# Altium footprint library TAS5720M.PcbLib: 1 footprints
Each footprint in its own frame and in the unit in brackets; x right, y up, seen from the top. Pads: shape width x height; smd on the part's side, far side on the other; paste and mask are expansions set on the pad; w line width, h text height; cw(c..) or ccw(c..) is an arc to the next point about the centre after c.
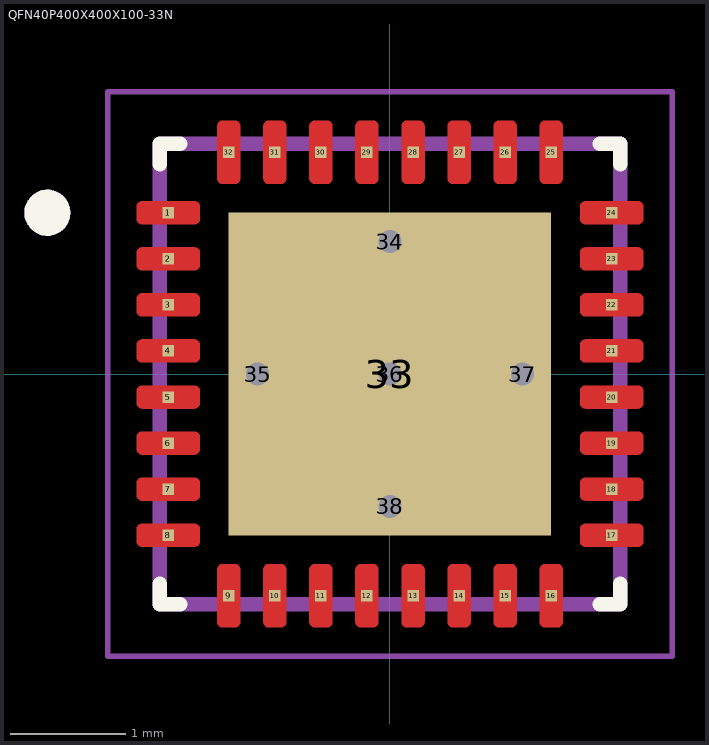
[diagram p0: the footprint, top view; thin cyan lines are the x and y axes]

## QFN40P400X400X100-33N [mm]
pads (38):
  rect 0.1x0.1 smd paste-1 mask+0: 1(-1.925,1.4) 2(-1.925,1) 3(-1.925,0.6) 4(-1.925,0.2) 5(-1.925,-0.2) 6(-1.925,-0.6) 7(-1.925,-1) 8(-1.925,-1.4) 9(-1.4,-1.925) 10(-1,-1.925) 11(-0.6,-1.925) 12(-0.2,-1.925) 13(0.2,-1.925) 14(0.6,-1.925) 15(1,-1.925) 16(1.4,-1.925) 17(1.925,-1.4) 18(1.925,-1) 19(1.925,-0.6) 20(1.925,-0.2) 21(1.925,0.2) 22(1.925,0.6) 23(1.925,1) 24(1.925,1.4) 25(1.4,1.925) 26(1,1.925) 27(0.6,1.925) 28(0.2,1.925) 29(-0.2,1.925) 30(-0.6,1.925) 31(-1,1.925) 32(-1.4,1.925)
  rect 2.8x2.8 smd paste-2 mask+0: 33(0,0)
  round 0.3 hole 0.2 mask+0: 34(0,1.15) 35(-1.15,0) 36(0,0) 37(1.15,0) 38(0,-1.15)
Top Layer:
  drawing of 32 lines, arcs and shapes, not listed
Top Overlay:
  circle w0.2: c-2.975,1.4 r0.1
  lines w0.127: -2,-1.82 -2,-2 -1.82,-2 ; -2,1.82 -2,2 -1.82,2 ; 1.82,-2 2,-2 2,-1.82 ; 1.82,2 2,2 2,1.82
Top Paste:
  drawing of 36 lines, arcs and shapes, not listed
Top Solder:
  drawing of 33 lines, arcs and shapes, not listed
Mechanical 13:
  circle w0.2: c-2.975,1.4 r0.1
  lines w0.127: -2,-2 -2,2 2,2 2,-2 -2,-2
Mechanical 15:
  lines w0.05: -2.45,-2.45 2.45,-2.45 2.45,2.45 -2.45,2.45 -2.45,-2.45
3D body "step_temp.STEP": height 1, standoff 0, extent -2,-2 2,2